# Altium footprint library ADolya_FpLib.PcbLib: 21 footprints (part 2 of 2)
Each footprint in its own frame and in the unit in brackets; x right, y up, seen from the top. Pads: shape width x height; smd on the part's side, far side on the other; paste and mask are expansions set on the pad; w line width, h text height; cw(c..) or ccw(c..) is an arc to the next point about the centre after c.
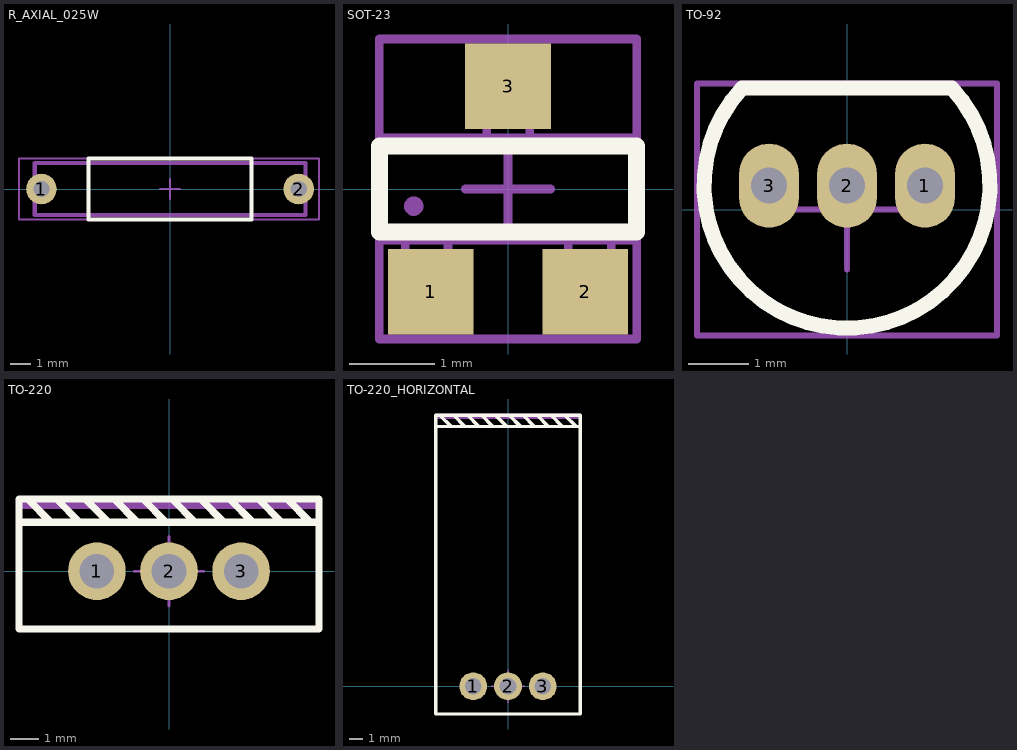
[diagram p1: the footprints below, top view; thin cyan lines are the x and y axes]

## R_AXIAL_025W [mm]
pads (2):
  round 1.5 hole 0.8: 1(-6.3,0) 2(6.3,0)
Top Overlay:
  lines w0.2: -4,-1.5 -4,1.5 4,1.5 4,-1.5 -4,-1.5
TopAssy:
  lines w0.2: -6.629,-1.27 6.63,-1.27 6.63,1.27 -6.629,1.27 -6.629,-1.27
Border:
  lines w0.1: -0.5,0 0.5,0 ; 0,-0.5 0,0.5 ; -7.4,-1.5 7.3,-1.5 7.3,1.5 -7.4,1.5 -7.4,-1.5
3D body "User Library-resistor 0_25w.STEP": height 2.54, standoff -3.05, extent -6.629,-1.27 6.63,1.27

## SOT-23 [mm]
pads (3):
  rect 1x1 smd: 1(-0.9,-1.2) 2(0.9,-1.2) 3(0,1.2)
Top Overlay:
  lines w0.2: -1.5,0.5 1.5,0.5 ; -1.5,0.5 -1.5,-0.5 1.5,-0.5 1.5,0.5 ; -1.5,0.5 1.5,0.5
TopAssy:
  circle w0.125: c-1.1,-0.2 r0.05
  lines w0.1: -1.2,-0.6 -1.2,-1.2 -0.7,-1.2 -0.7,-0.6 ; -0.248,0.6 -0.247,1.2 0.252,1.2 0.252,0.6 ; 0.705,-0.6 0.705,-1.2 1.205,-1.2 1.205,-0.6 ; -1.5,-0.6 1.5,-0.6 1.5,0.6 -1.5,0.6 -1.5,-0.6
Border:
  lines w0.1: -0.5,0 0.5,0 ; 0,-0.5 0,0.5 ; -1.5,-1.75 1.5,-1.75 1.5,1.75 -1.5,1.75 -1.5,-1.75
3D body "SOT-23.STEP": height 1.11, standoff 0.01, extent -1.5,-1.15 1.5,1.15

## TO-92 [mm]
height 10
pads (3):
  oval 1x1.4 hole 0.6: 1(1.3,0.4) 2(0,0.4) 3(-1.3,0.4)
Top Overlay:
  lines w0.25: -1.75,2.025 ccw(c0,0.408) 1.75,2.025 -1.75,2.025
TopAssy:
  lines w0.1: -1.75,2.025 ccw(c0,0.408) 1.75,2.025 -1.75,2.025
Border:
  lines w0.1: -1,0 1,0 ; 0,-1 0,1 ; -2.5,-2.1 -2.5,2.1 2.5,2.1 2.5,-2.1 -2.5,-2.1
3D body "User Library-TO-92A.step": height 8, standoff -3, extent -2.4,-1.915 2.4,2.015

## TO-220 [mm]
height 15
pads (3):
  round 2 hole 1.2: 1(-2.5,0) 2(0,0) 3(2.5,0)
Top Overlay:
  lines w0.25: -5.2,1.7 5.2,1.7 ; -4.9,2.5 -4.1,1.7 ; -3.9,2.5 -3.1,1.7 ; -2.9,2.5 -2.1,1.7 ; -1.9,2.5 -1.1,1.7 ; -0.9,2.5 -0.1,1.7 ; 0.1,2.5 0.9,1.7 ; 1.1,2.5 1.9,1.7 ; 2.1,2.5 2.9,1.7 ; 3.1,2.5 3.9,1.7 ; 4.1,2.5 4.9,1.7 ; -5.2,-2 -5.2,2.5 5.2,2.5 5.2,-2 -5.2,-2
TopAssy:
  lines w0.1: -5.2,2.2 5.2,2.2 ; -5.2,2.3 5.2,2.3 ; -5.2,2.4 5.2,2.4 ; -5.2,-2 5.2,-2 5.2,2.5 -5.2,2.5 -5.2,-2
Border:
  lines w0.1: -1.2,0 1.2,0 ; 0,-1.2 0,1.2 ; -5.2,-2 -5.2,2.5 5.2,2.5 5.2,-2 -5.2,-2
3D body "User Library-Transistors TO-220 FULLPAK 3-PIN.step": height 20.87, standoff -8.6, extent -5.08,-1.783 5.08,2.917

## TO-220_HORIZONTAL [mm]
height 15
pads (3):
  round 2 hole 1.2: 1(-2.5,0) 2(0,0) 3(2.5,0)
Top Overlay:
  lines w0.25: -5.2,18.7 5.2,18.7 ; -4.9,19.5 -4.1,18.7 ; -3.9,19.5 -3.1,18.7 ; -2.9,19.5 -2.1,18.7 ; -1.9,19.5 -1.1,18.7 ; -0.9,19.5 -0.1,18.7 ; 0.1,19.5 0.9,18.7 ; 1.1,19.5 1.9,18.7 ; 2.1,19.5 2.9,18.7 ; 3.1,19.5 3.9,18.7 ; 4.1,19.5 4.9,18.7 ; -5.2,-2 5.2,-2 5.2,19.5 -5.2,19.5 -5.2,-2
TopAssy:
  lines w0.1: -5.2,19.3 5.2,19.3 ; -5.2,19.4 5.2,19.4 ; -5.2,19.6 5.2,19.6 ; -5.2,-2 -5.2,19.5 5.2,19.5 5.2,-2 -5.2,-2
Border:
  lines w0.1: -1.2,0 1.2,0 ; 0,-1.2 0,1.2 ; -5.2,-2 5.2,-2 5.2,19.5 -5.2,19.5 -5.2,-2
3D body "CircuitWorks-TO-220.STEP": height 4.7, standoff -2.5, extent -5.08,0 5.08,19.49